# EAGLE library part WE-FLEX_EFD20 (library Wurth_Power Magnetics_WE-FLEX)
WE-FLEX Flexible Transformer for DC/DC Converter Characteristics Transformer with 6 identical windings 4 sizes with 5 different lengths of air gap each Insulation test voltage 500 VAC Low leakage inductance Operating temperature: –40 ºC to +125 ºC By using different circuits more than 375 transformer solutions and about 125 choke solutions possible. Consequently, quick prototyping possibilities Applications All kind of switching regulators -Flyback converters -Forward converters -Push-pull converters -Step-up/step-down converters -SEPIC converter <https://katalog.we-online.com/media/images/v2/o14787v209%20Family_WE-FLEX.jpg> Details see: https://katalog.we-online.com/en/pbs/WE-FLEX Updated by Yingchun, Shan 2019-08-15 2019 (C) Wurth Elektronik
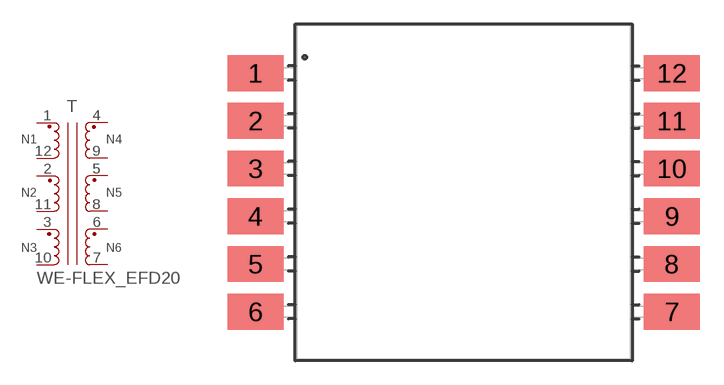
[diagram p1: symbol with the pads of WE-FLEX_EFD20; footprint WE-FLEX_EFD20]

Designator prefix T

## WE-FLEX_EFD20_749196500 (DATASHEET-URL: https://katalog.we-online.com/pbs/datasheet/749196500.pdf; IRBASE: 1.91A; ISATBASE: 0.03A; LSBASE: 0.18uH; N: 1:1:1:1:1:1; PART-NUMBER: 749196500; RDCBASE: 30mOhm; VALUE: 87.1uH; VOLTAGE-USECONDBASE: 65.6uVs; VT: 500 V (AC)), WE-FLEX_EFD20_749196501 (DATASHEET-URL: https://katalog.we-online.com/pbs/datasheet/749196501.pdf; IRBASE: 1.7A; ISATBASE: 0.02A; LSBASE: 0.24uH; N: 1:1:1:1:1:1; PART-NUMBER: 749196501; RDCBASE: 71.1mOhm; VALUE: 196uH; VOLTAGE-USECONDBASE: 98.4uVs; VT: 500 V (AC)), WE-FLEX_EFD20_749196510 (DATASHEET-URL: https://katalog.we-online.com/pbs/datasheet/749196510.pdf; IRBASE: 1.91A; ISATBASE: 1.17A; LSBASE: 0.18uH; N: 1:1:1:1:1:1; PART-NUMBER: 749196510; RDCBASE: 30mOhm; VALUE: 9.9uH; VOLTAGE-USECONDBASE: 65.6uVs; VT: 500 V (AC)), WE-FLEX_EFD20_749196511 (DATASHEET-URL: https://katalog.we-online.com/pbs/datasheet/749196511.pdf; IRBASE: 1.7A; ISATBASE: 0.49A; LSBASE: 0.24uH; N: 1:1:1:1:1:1; PART-NUMBER: 749196511; RDCBASE: 71.1mOhm; VALUE: 22.3uH; VOLTAGE-USECONDBASE: 98.4uVs; VT: 500 V (AC)), WE-FLEX_EFD20_749196520 (DATASHEET-URL: https://katalog.we-online.com/pbs/datasheet/749196520.pdf; IRBASE: 1.91A; ISATBASE: 2.53A; LSBASE: 0.18uH; N: 1:1:1:1:1:1; PART-NUMBER: 749196520; RDCBASE: 30mOhm; VALUE: 5.3uH; VOLTAGE-USECONDBASE: 65.6uVs; VT: 500 V (AC)), WE-FLEX_EFD20_749196521 (DATASHEET-URL: https://katalog.we-online.com/pbs/datasheet/749196521.pdf; IRBASE: 1.7A; ISATBASE: 1.73A; LSBASE: 0.24uH; N: 1:1:1:1:1:1; PART-NUMBER: 749196521; RDCBASE: 71.1mOhm; VALUE: 12uH; VOLTAGE-USECONDBASE: 98.4uVs; VT: 500 V (AC)), WE-FLEX_EFD20_749196530 (DATASHEET-URL: https://katalog.we-online.com/pbs/datasheet/749196530.pdf; IRBASE: 1.91A; ISATBASE: 2.91A; LSBASE: 0.18uH; N: 1:1:1:1:1:1; PART-NUMBER: 749196530; RDCBASE: 30mOhm; VALUE: 4.3uH; VOLTAGE-USECONDBASE: 65.6uVs; VT: 500 V (AC)), WE-FLEX_EFD20_749196531 (DATASHEET-URL: https://katalog.we-online.com/pbs/datasheet/749196531.pdf; IRBASE: 1.7A; ISATBASE: 2.2A; LSBASE: 0.24uH; N: 1:1:1:1:1:1; PART-NUMBER: 749196531; RDCBASE: 71.1mOhm; VALUE: 9.7uH; VOLTAGE-USECONDBASE: 98.4uVs; VT: 500 V (AC)), WE-FLEX_EFD20_749196540 (DATASHEET-URL: https://katalog.we-online.com/pbs/datasheet/749196540.pdf; IRBASE: 1.91A; ISATBASE: 4.18A; LSBASE: 0.18uH; N: 1:1:1:1:1:1; PART-NUMBER: 749196540; RDCBASE: 30mOhm; VALUE: 3.4uH; VOLTAGE-USECONDBASE: 65.6uVs; VT: 500 V (AC)), WE-FLEX_EFD20_749196541 (DATASHEET-URL: https://katalog.we-online.com/pbs/datasheet/749196541.pdf; IRBASE: 1.7A; ISATBASE: 2.46A; LSBASE: 0.24uH; N: 1:1:1:1:1:1; PART-NUMBER: 749196541; RDCBASE: 71.1mOhm; VALUE: 7.6uH; VOLTAGE-USECONDBASE: 98.4uVs; VT: 500 V (AC))  [WE-FLEX_EFD20]
1  1  pas
2  3  pas
3  5  pas
4  12  pas
5  10  pas
6  8  pas
7  7  pas
8  9  pas
9  11  pas
10  6  pas
11  4  pas
12  2  pas

## Footprint WE-FLEX_EFD20 (pad centres in mm)
WE-FLEX Flexible Transformer for DC/DC Converter Size: EFD20 SMD 12Pin
smd 3.5 x 2.25: 1 -13.1,7.5; 2 -13.1,4.5; 3 -13.1,1.5; 4 -13.1,-1.5; 5 -13.1,-4.5; 6 -13.1,-7.5; 7 13.1,-7.5; 8 13.1,-4.5; 9 13.1,-1.5; 10 13.1,1.5; 11 13.1,4.5; 12 13.1,7.5